# Altium footprint library MAX1921EUT18&plus_.PcbLib: 3 footprints
Each footprint in its own frame and in the unit in brackets; x right, y up, seen from the top. Pads: shape width x height; smd on the part's side, far side on the other; paste and mask are expansions set on the pad; w line width, h text height; cw(c..) or ccw(c..) is an arc to the next point about the centre after c.
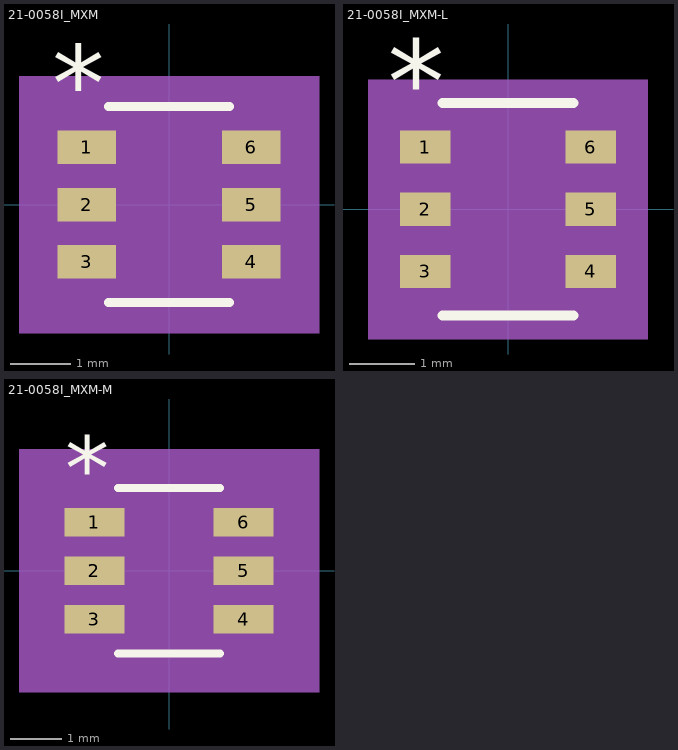
[diagram p0: the footprints below, top view; thin cyan lines are the x and y axes]

## 21-0058I_MXM [mil]
pads (6):
  rect 38.5x22 smd paste+0 mask+0: 1(-53.75,37.4) 2(-53.75,0) 3(-53.75,-37.4) 4(53.75,-37.4) 5(53.75,0) 6(53.75,37.4)
Top Overlay:
  lines w6: -39.5,-64 39.5,-64 ; -39.5,64 39.5,64
  text "*" at -76.25,54.4 h50
Mechanical 5:
  region: 98,-84 -98,-84 -98,84 98,84
Mechanical 13:
  lines w0: -12,59 ccw(c0,59) 12,59
  lines w1: -59,-47.4 -34.5,-47.4 -34.5,-27.4 -59,-27.4 -59,-47.4 ; -59,-10 -34.5,-10 -34.5,10 -59,10 -59,-10 ; -59,27.4 -34.5,27.4 -34.5,47.4 -59,47.4 -59,27.4 ; -34.5,-59 -34.5,59 34.5,59 34.5,-59 -34.5,-59 ; 34.5,-47.4 59,-47.4 59,-27.4 34.5,-27.4 34.5,-47.4 ; 34.5,-10 59,-10 59,10 34.5,10 34.5,-10 ; 34.5,27.4 59,27.4 59,47.4 34.5,47.4 34.5,27.4
  text "*" at -32,6 h50
Mechanical 15:
  region: -44.5,-58.4 -83,-58.4 -83,58.4 -44.5,58.4 -44.5,69 44.5,69 44.5,58.4 83,58.4 83,-58.4 44.5,-58.4 44.5,-69 -44.5,-69
  lines w6: -83,-58.4 -44.5,-58.4 -44.5,-69 44.5,-69 44.5,-58.4 83,-58.4 83,58.4 44.5,58.4 44.5,69 -44.5,69 -44.5,58.4 -83,58.4 -83,-58.4
3D body "21-0058I_MXM.step": height 57.09, standoff 0, extent -59.02,-59.02 59.02,59.02

## 21-0058I_MXM-L [mil]
pads (6):
  rect 30.5x20 smd paste+0 mask+0: 1(-49.75,37.4) 2(-49.75,0) 3(-49.75,-37.4) 4(49.75,-37.4) 5(49.75,0) 6(49.75,37.4)
Top Overlay:
  lines w6: -39.5,-64 39.5,-64 ; -39.5,64 39.5,64
  text "*" at -72.25,52.4 h50
Mechanical 5:
  region: 84,-78 -84,-78 -84,78 84,78
Mechanical 13:
  lines w0: -12,59 ccw(c0,59) 12,59
  lines w1: -59,-47.4 -34.5,-47.4 -34.5,-27.4 -59,-27.4 -59,-47.4 ; -59,-10 -34.5,-10 -34.5,10 -59,10 -59,-10 ; -59,27.4 -34.5,27.4 -34.5,47.4 -59,47.4 -59,27.4 ; -34.5,-59 -34.5,59 34.5,59 34.5,-59 -34.5,-59 ; 34.5,-47.4 59,-47.4 59,-27.4 34.5,-27.4 34.5,-47.4 ; 34.5,-10 59,-10 59,10 34.5,10 34.5,-10 ; 34.5,27.4 59,27.4 59,47.4 34.5,47.4 34.5,27.4
  text "*" at -32,6 h50
Mechanical 15:
  region: -38.5,-51.4 -69,-51.4 -69,51.4 -38.5,51.4 -38.5,63 38.5,63 38.5,51.4 69,51.4 69,-51.4 38.5,-51.4 38.5,-63 -38.5,-63
  lines w6: -69,-51.4 -38.5,-51.4 -38.5,-63 38.5,-63 38.5,-51.4 69,-51.4 69,51.4 38.5,51.4 38.5,63 -38.5,63 -38.5,51.4 -69,51.4 -69,-51.4
3D body "21-0058I_MXM.step": height 57.09, standoff 0, extent -59.02,-59.02 59.02,59.02

## 21-0058I_MXM-M [mil]
pads (6):
  rect 46.5x22 smd paste+0 mask+0: 1(-57.75,37.4) 2(-57.75,0) 3(-57.75,-37.4) 4(57.75,-37.4) 5(57.75,0) 6(57.75,37.4)
Top Overlay:
  lines w6: -39.5,-64 39.5,-64 ; -39.5,64 39.5,64
  text "*" at -80.25,54.4 h50
Mechanical 5:
  region: 116,-94 -116,-94 -116,94 116,94
Mechanical 13:
  lines w0: -12,59 ccw(c0,59) 12,59
  lines w1: -59,-47.4 -34.5,-47.4 -34.5,-27.4 -59,-27.4 -59,-47.4 ; -59,-10 -34.5,-10 -34.5,10 -59,10 -59,-10 ; -59,27.4 -34.5,27.4 -34.5,47.4 -59,47.4 -59,27.4 ; -34.5,-59 -34.5,59 34.5,59 34.5,-59 -34.5,-59 ; 34.5,-47.4 59,-47.4 59,-27.4 34.5,-27.4 34.5,-47.4 ; 34.5,-10 59,-10 59,10 34.5,10 34.5,-10 ; 34.5,27.4 59,27.4 59,47.4 34.5,47.4 34.5,27.4
  text "*" at -32,6 h50
Mechanical 15:
  region: -54.5,-68.4 -101,-68.4 -101,68.4 -54.5,68.4 -54.5,79 54.5,79 54.5,68.4 101,68.4 101,-68.4 54.5,-68.4 54.5,-79 -54.5,-79
  lines w6: -101,-68.4 -54.5,-68.4 -54.5,-79 54.5,-79 54.5,-68.4 101,-68.4 101,68.4 54.5,68.4 54.5,79 -54.5,79 -54.5,68.4 -101,68.4 -101,-68.4
3D body "21-0058I_MXM.step": height 57.09, standoff 0, extent -59.02,-59.02 59.02,59.02